# EAGLE library part XFORMER-1:14:14 (library hot-wand)
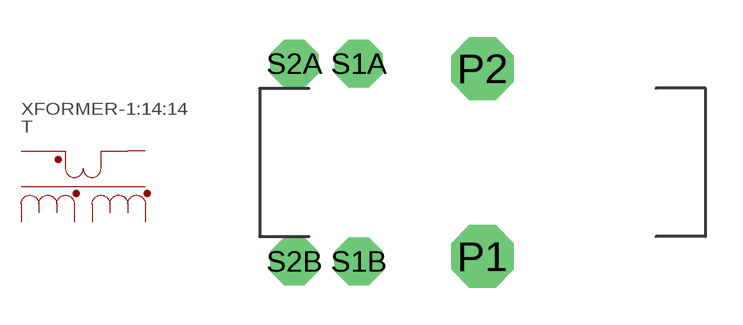
[diagram p0: symbol with the pads of XFORMER-K16X8X6-1:14:14; footprint XFORMER-K16X8X6-1:14:14]

Designator prefix T

## XFORMER-1:14:14  [XFORMER-K16X8X6-1:14:14]
P1  P2
P2  P1
S1A  1
S1B  4
S2A  3
S2B  2

## Footprint XFORMER-K16X8X6-1:14:14 (pad centres in mm)
drill 1 pad 2.54 octagon: P1 0,-3.8; P2 0,3.8
drill 1 pad 1.93 octagon: S1A -5,4; S1B -5,-4; S2A -7.6,4; S2B -7.6,-4